# EAGLE library part Q2406B (library X893)
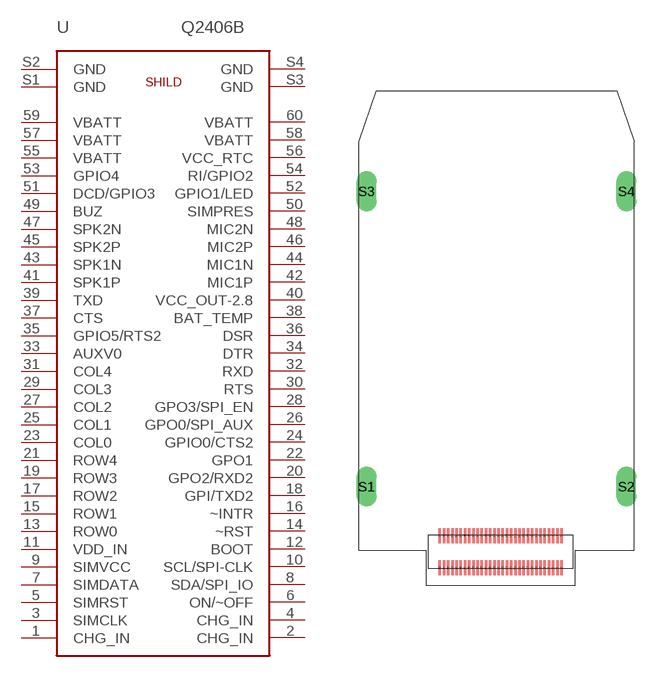
[diagram p79: symbol with the pads of Q2406B; footprint Q2406B]

Designator prefix U

## Q2406B  [Q2406B]
1  CHG_IN  pas
2  CHG_IN  pas
3  SIMCLK  out
4  CHG_IN  pas
5  SIMRST  out
6  ON/~OFF  in
7  SIMDATA
8  SDA/SPI_IO
9  SIMVCC  pas
10  SCL/SPI-CLK
11  VDD_IN  pas
12  BOOT  in
13  ROW0
14  ~RST  in
15  ROW1
16  ~INTR
17  ROW2
18  GPI/TXD2
19  ROW3
20  GPO2/RXD2
21  ROW4
22  GPO1
23  COL0
24  GPIO0/CTS2
25  COL1
26  GPO0/SPI_AUX
27  COL2
28  GPO3/SPI_EN
29  COL3
30  RTS  in
31  COL4
32  RXD  out
33  AUXV0  pas
34  DTR  in
35  GPIO5/RTS2
36  DSR  out
37  CTS  out
38  BAT_TEMP
39  TXD  in
40  VCC_OUT-2.8  pas
41  SPK1P
42  MIC1P
43  SPK1N
44  MIC1N
45  SPK2P
46  MIC2P
47  SPK2N
48  MIC2N
49  BUZ  out
50  SIMPRES  in
51  DCD/GPIO3
52  GPIO1/LED
53  GPIO4
54  RI/GPIO2
55  VBATT  pas
56  VCC_RTC  pas
57  VBATT  pas
58  VBATT  pas
59  VBATT  pas
60  VBATT  pas
S1  GND  sup
S2  GND  sup
S3  GND  sup
S4  GND  sup

## Footprint Q2406B (pad centres in mm)
smd 0.3 x 1.8: 1 7.25,-1.9; 2 7.25,1.9; 3 6.75,-1.9; 4 6.75,1.9; 5 6.25,-1.9; 6 6.25,1.9; 7 5.75,-1.9; 8 5.75,1.9; 9 5.25,-1.9; 10 5.25,1.9; 11 4.75,-1.9; 12 4.75,1.9; 13 4.25,-1.9; 14 4.25,1.9; 15 3.75,-1.9; 16 3.75,1.9; 17 3.25,-1.9; 18 3.25,1.9; 19 2.75,-1.9; 20 2.75,1.9; 21 2.25,-1.9; 22 2.25,1.9; 23 1.75,-1.9; 24 1.75,1.9; 25 1.25,-1.9; 26 1.25,1.9; 27 0.75,-1.9; 28 0.75,1.9; 29 0.25,-1.9; 30 0.25,1.9; 31 -0.25,-1.9; 32 -0.25,1.9; 33 -0.75,-1.9; 34 -0.75,1.9; 35 -1.25,-1.9; 36 -1.25,1.9; 37 -1.75,-1.9; 38 -1.75,1.9; 39 -2.25,-1.9; 40 -2.25,1.9; 41 -2.75,-1.9; 42 -2.75,1.9; 43 -3.25,-1.9; 44 -3.25,1.9; 45 -3.75,-1.9; 46 -3.75,1.9; 47 -4.25,-1.9; 48 -4.25,1.9; 49 -4.75,-1.9; 50 -4.75,1.9; 51 -5.25,-1.9; 52 -5.25,1.9; 53 -5.75,-1.9; 54 -5.75,1.9; 55 -6.25,-1.9; 56 -6.25,1.9; 57 -6.75,-1.9; 58 -6.75,1.9; 59 -7.25,-1.9; 60 -7.25,1.9
drill 1.6 long: S1 -15.975,7.775; S2 14.975,7.775; S3 -15.975,42.925; S4 14.975,42.925